# Altium schematic symbol library 74xxx109DB-TSSOP16.SchLib: 1 symbol
Pins are listed as number, name and electrical type; pins without a type are passive.

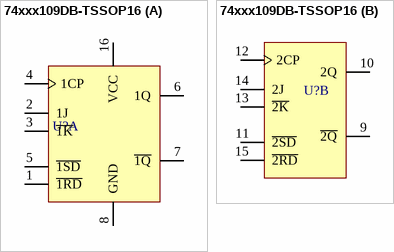
[diagram p0: symbol 74xxx109DB-TSSOP16]

## 74xxx109DB-TSSOP16
designator U?  (value not drawn)
part A pins: 1 ~{1RD} (power), 2 1J, 3 ~{1K} (power), 4 1CP, 5 ~{1SD} (power), 6 1Q, 7 ~{1Q}, 8 GND, 16 VCC
part B pins: 9 ~{2Q}, 10 2Q, 11 ~{2SD} (power), 12 2CP, 13 ~{2K} (power), 14 2J, 15 ~{2RD} (power)